# EAGLE library part TA7291SG (library motor)
Motor Driver
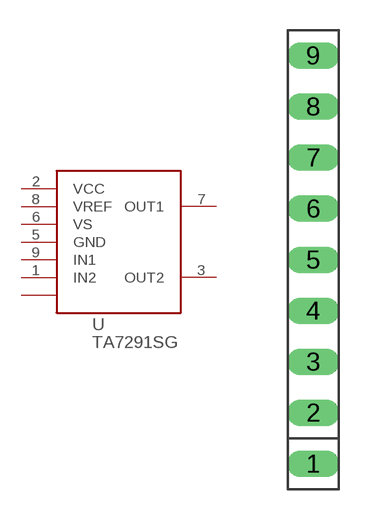
[diagram p0: symbol with the pads of 9PIN; footprint 9PIN]

Designator prefix -

## TA7291SG  [9PIN]
1  IN2  in
2  VCC  in
3  OUT2  out
4  NC  nc
5  GND  in
6  VS  in
7  OUT1  out
8  VREF  in
9  IN1  in

## Footprint 9PIN (pad centres in mm)
drill 0.8 long: 1 0,-10.16; 2 0,-7.62; 3 0,-5.08; 4 0,-2.54; 5 0,0; 6 0,2.54; 7 0,5.08; 8 0,7.62; 9 0,10.16